# Altium footprint library ESP32_DevKitCWROOM32.PcbLib: 1 footprints
Each footprint in its own frame and in the unit in brackets; x right, y up, seen from the top. Pads: shape width x height; smd on the part's side, far side on the other; paste and mask are expansions set on the pad; w line width, h text height; cw(c..) or ccw(c..) is an arc to the next point about the centre after c.
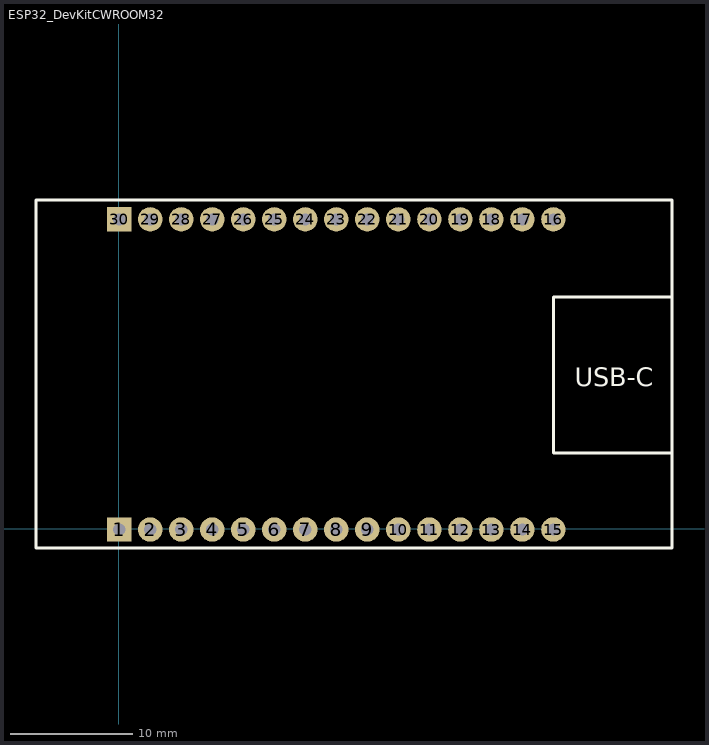
[diagram p0: the footprint, top view; thin cyan lines are the x and y axes]

## ESP32_DevKitCWROOM32 [mm] "Multiprotocol Modules SMD Module ESP32-WROOM-32E, ESP32-D0WD-V3, 16 MB SPI flash, PCB antenna"
pads (30):
  rect 2x2 hole 1: 1(0.03,-0.081) 30(0.03,25.319)
  round 2 hole 1: 2(2.57,-0.081) 3(5.11,-0.081) 4(7.65,-0.081) 5(10.19,-0.081) 6(12.73,-0.081) 7(15.27,-0.081) 8(17.81,-0.081) 9(20.35,-0.081) 10(22.89,-0.081) 11(25.43,-0.081) 12(27.97,-0.081) 13(30.51,-0.081) 14(33.05,-0.081) 15(35.59,-0.081) 16(35.59,25.319) 17(33.05,25.319) 18(30.51,25.319) 19(27.97,25.319) 20(25.43,25.319) 21(22.89,25.319) 22(20.35,25.319) 23(17.81,25.319) 24(15.27,25.319) 25(12.73,25.319) 26(10.19,25.319) 27(7.65,25.319) 28(5.11,25.319) 29(2.57,25.319)
Top Overlay:
  lines w0.254: 45.242,6.192 35.59,6.192 35.59,18.969 45.318,18.969 ; -6.803,-1.605 45.318,-1.605 45.318,26.919 -6.803,26.919 -6.803,-1.605
  text "USB-C" at 37.342,11.653 h1.52
3D body "EPS Wroom 3.2 ESP-32S.stp": height 7.79, standoff -4.89, extent -6.539,-1.428 45.156,26.772